# EAGLE library part SDCARD (library untitled)
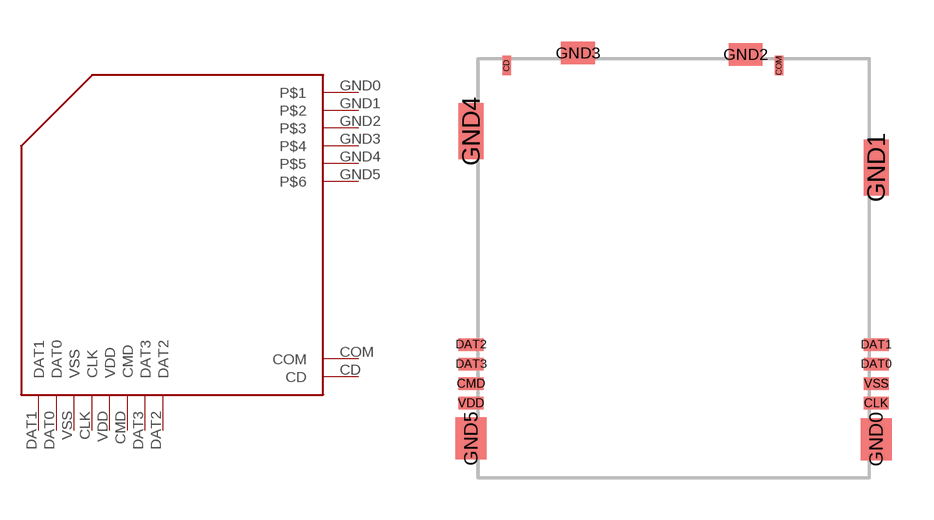
[diagram p8: symbol with the pads of SDCARD; footprint SDCARD]

Designator prefix -

## SDCARD  [SDCARD]
CD  CD
CLK  CLK
CMD  CMD
COM  COM
DAT0  DAT0
DAT1  DAT1
DAT2  DAT2
DAT3  DAT3
GND0  P$1
GND1  P$2
GND2  P$3
GND3  P$4
GND4  P$5
GND5  P$6
VDD  VDD
VSS  VSS

## Footprint SDCARD (pad centres in mm)
smd 0.3 x 0.7: CD -5.975,7.25; COM 3.775,7.25
smd 0.9 x 0.45: CLK 7.25,-4.835; CMD -7.25,-4.135; DAT0 7.25,-3.435; DAT1 7.25,-2.74; DAT2 -7.25,-2.735; DAT3 -7.25,-3.435; VDD -7.25,-4.835; VSS 7.25,-4.135
smd 1.1 x 1.5: GND0 7.25,-6.125; GND5 -7.25,-6.1
smd 0.9 x 2: GND1 7.25,3.6; GND4 -7.25,4.9
smd 1.2 x 0.8: GND2 2.575,7.65; GND3 -3.425,7.7